# Altium schematic symbol library Moa.SchLib: 185 symbols (part 2 of 3)
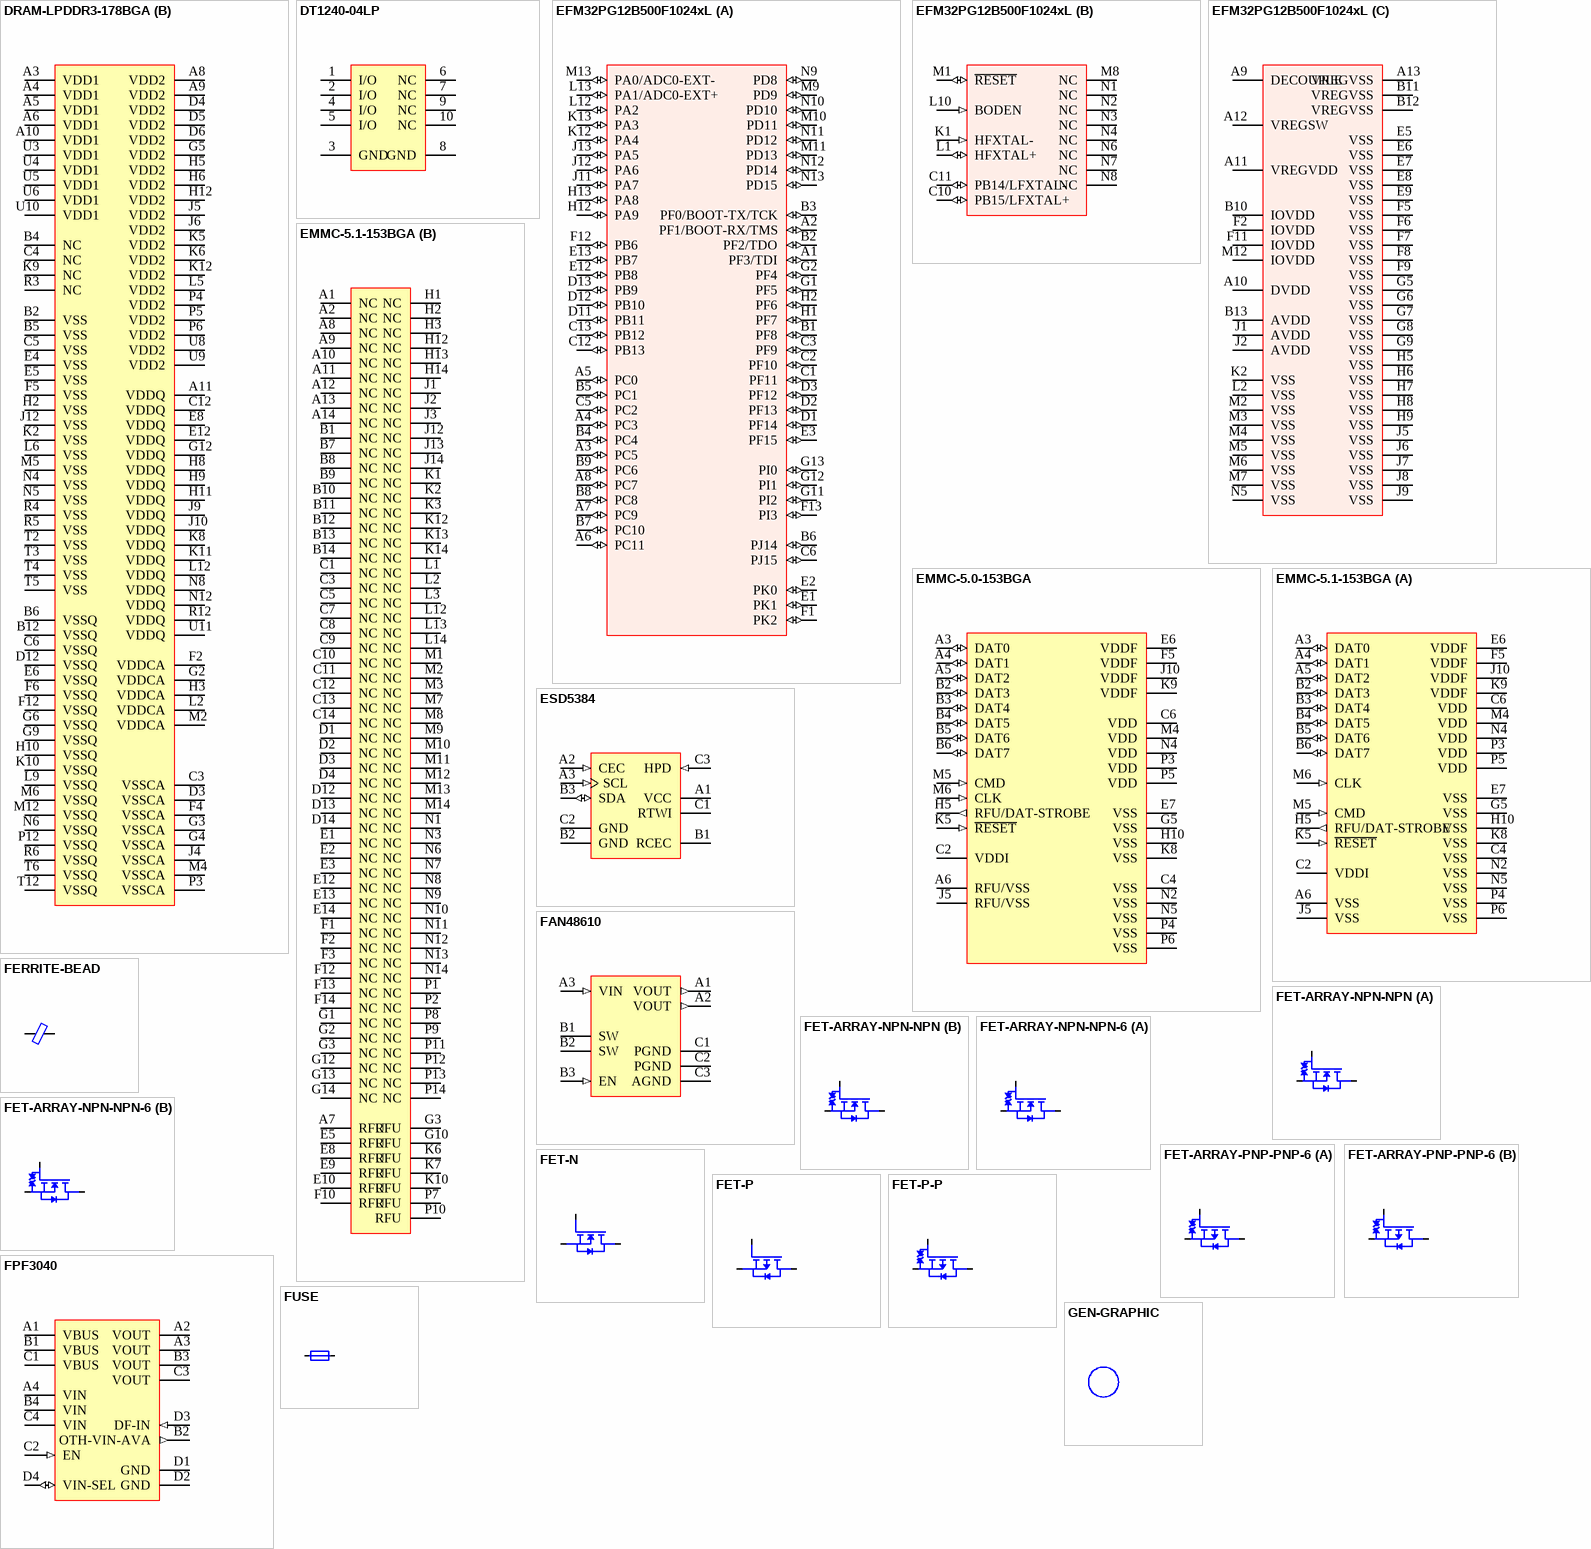
[diagram p11: symbols DRAM-LPDDR3-178BGA to GEN-GRAPHIC]

## DRAM-LPDDR3-178BGA
designator DU?
part A pins: A1 DNU "Do not use", A2 DNU "Do not use", A12 DNU "Do not use", A13 DNU "Do not use", B1 DNU "Do not use", B3 ZQ (io) "Reference Pin for Output Drive Strength Calibration", B8 DQ31 (io) "Data Inputs/Outputs: Bi-directional data bus", B9 DQ30 (io) "Data Inputs/Outputs: Bi-directional data bus", B10 DQ29 (io) "Data Inputs/Outputs: Bi-directional data bus", B11 DQ28 (io) "Data Inputs/Outputs: Bi-directional data bus", B13 DNU "Do not use", C2 CA9 (in) "DDR Command/Address Inputs: Uni-directional command/address bus inputs.", C8 DQ27 (io) "Data Inputs/Outputs: Bi-directional data bus", C9 DQ26 (io) "Data Inputs/Outputs: Bi-directional data bus", C10 DQ25 (io) "Data Inputs/Outputs: Bi-directional data bus", C11 DQ24 (io) "Data Inputs/Outputs: Bi-directional data bus", D2 CA8 (in) "DDR Command/Address Inputs: Uni-directional command/address bus inputs.", D8 DM3 (in) "Input Data Mask: DM is the input mask signal for write data. Input data is masked when DM is sampled HIGH coincident with that input data during a Write access.", D9 DQ15 (io) "Data Inputs/Outputs: Bi-directional data bus", D10 DQS3+ (io) "Data Strobes (Bi-directional, Differential): The data strobe is bi-directional (used for read and write data) and differential (DQS_t and DQS_c).", D11 DQS3- (io) "Data Strobes (Bi-directional, Differential): The data strobe is bi-directional (used for read and write data) and differential (DQS_t and DQS_c).", E2 CA7 (in) "DDR Command/Address Inputs: Uni-directional command/address bus inputs.", E3 CA6 (in) "DDR Command/Address Inputs: Uni-directional command/address bus inputs.", E9 DQ14 (io) "Data Inputs/Outputs: Bi-directional data bus", E10 DQ13 (io) "Data Inputs/Outputs: Bi-directional data bus", E11 DQ12 (io) "Data Inputs/Outputs: Bi-directional data bus", F3 CA5 (in) "DDR Command/Address Inputs: Uni-directional command/address bus inputs.", F8 DQ11 (io) "Data Inputs/Outputs: Bi-directional data bus", F9 DQ10 (io) "Data Inputs/Outputs: Bi-directional data bus", F10 DQ9 (io) "Data Inputs/Outputs: Bi-directional data bus", F11 DQ8 (io) "Data Inputs/Outputs: Bi-directional data bus", G8 DM1 (in) "Input Data Mask: DM is the input mask signal for write data. Input data is masked when DM is sampled HIGH coincident with that input data during a Write access.", G10 DQS1+ (io) "Data Strobes (Bi-directional, Differential): The data strobe is bi-directional (used for read and write data) and differential (DQS_t and DQS_c).", G11 DQS1- (io) "Data Strobes (Bi-directional, Differential): The data strobe is bi-directional (used for read and write data) and differential (DQS_t and DQS_c).", H4 VREF (CA) (power) "Reference Voltage for CA Command and Control Input Receiver: Reference voltage for all CA0-9, CKE, CS_n, CK_t, and CK_c input buffers.", J2 CK- (in) "Clock: CK_t and CK_c are differential clock inputs.", J3 CK+ (in) "Clock: CK_t and CK_c are differential clock inputs.", J8 ODT (in) "On Die Termination: This signal enables and disables termination on the DRAM DQ bus according to the specified mode register settings.", J11 VREF (DQ) (power) "Reference Voltage for DQ Input Receiver: Reference voltage for all data input buffers.", K3 CKE0 (in) "Clock Enable: CKE HIGH activates and CKE LOW deactivates internal clock signals and therefore device input buffers and output drivers.", K4 CKE1 (in) "Clock Enable: CKE HIGH activates and CKE LOW deactivates internal clock signals and therefore device input buffers and output drivers.", L3 ~{CS0} (in) "Chip Select: CS_n is considered part of the command code.", L4 ~{CS1} (in) "Chip Select: CS_n is considered part of the command code.", L8 DM0 (in) "Input Data Mask: DM is the input mask signal for write data. Input data is masked when DM is sampled HIGH coincident with that input data during a Write access.", L10 DQS0+ (io) "Data Strobes (Bi-directional, Differential): The data strobe is bi-directional (used for read and write data) and differential (DQS_t and DQS_c).", L11 DQS0- (io) "Data Strobes (Bi-directional, Differential): The data strobe is bi-directional (used for read and write data) and differential (DQS_t and DQS_c).", M3 CA4 (in) "DDR Command/Address Inputs: Uni-directional command/address bus inputs.", M8 DQ4 (io) "Data Inputs/Outputs: Bi-directional data bus", M9 DQ5 (io) "Data Inputs/Outputs: Bi-directional data bus", M10 DQ6 (io) "Data Inputs/Outputs: Bi-directional data bus", M11 DQ7 (io) "Data Inputs/Outputs: Bi-directional data bus", N2 CA2 (in) "DDR Command/Address Inputs: Uni-directional command/address bus inputs.", N3 CA3 (in) "DDR Command/Address Inputs: Uni-directional command/address bus inputs.", N9 DQ1 (io) "Data Inputs/Outputs: Bi-directional data bus", N10 DQ2 (io) "Data Inputs/Outputs: Bi-directional data bus", N11 DQ3 (io) "Data Inputs/Outputs: Bi-directional data bus", P2 CA1 (in) "DDR Command/Address Inputs: Uni-directional command/address bus inputs.", P8 DM2 (in) "Input Data Mask: DM is the input mask signal for write data. Input data is masked when DM is sampled HIGH coincident with that input data during a Write access.", P9 DQ0 (io) "Data Inputs/Outputs: Bi-directional data bus", P10 DQS2+ (io) "Data Strobes (Bi-directional, Differential): The data strobe is bi-directional (used for read and write data) and differential (DQS_t and DQS_c).", P11 DQS2- (io) "Data Strobes (Bi-directional, Differential): The data strobe is bi-directional (used for read and write data) and differential (DQS_t and DQS_c).", R2 CA0 (in) "DDR Command/Address Inputs: Uni-directional command/address bus inputs.", R8 DQ20 (io) "Data Inputs/Outputs: Bi-directional data bus", R9 DQ21 (io) "Data Inputs/Outputs: Bi-directional data bus", R10 DQ22 (io) "Data Inputs/Outputs: Bi-directional data bus", R11 DQ23 (io) "Data Inputs/Outputs: Bi-directional data bus", T1 DNU "Do not use", T8 DQ16 (io) "Data Inputs/Outputs: Bi-directional data bus", T9 DQ17 (io) "Data Inputs/Outputs: Bi-directional data bus", T10 DQ18 (io) "Data Inputs/Outputs: Bi-directional data bus", T11 DQ19 (io) "Data Inputs/Outputs: Bi-directional data bus", T13 DNU "Do not use", U1 DNU "Do not use", U2 DNU "Do not use", U12 DNU "Do not use", U13 DNU "Do not use"
part B pins: A3 VDD1 (power) "Core Power Supply 1: Core power supply.", A4 VDD1 (power) "Core Power Supply 1: Core power supply.", A5 VDD1 (power) "Core Power Supply 1: Core power supply.", A6 VDD1 (power) "Core Power Supply 1: Core power supply.", A8 VDD2 (power) "Core Power Supply 2: Core power supply.", A9 VDD2 (power) "Core Power Supply 2: Core power supply.", A10 VDD1 (power) "Core Power Supply 1: Core power supply.", A11 VDDQ (power) "I/O Power Supply: Power supply for Data input/output buffers.", B2 VSS (power) "Ground", B4 NC "Not connected", B5 VSS (power) "Ground", B6 VSSQ (power) "I/O Ground: Ground for data input/output buffers", B12 VSSQ (power) "I/O Ground: Ground for data input/output buffers", C3 VSSCA (power) "Ground for Input Receivers", C4 NC "Not connected", C5 VSS (power) "Ground", C6 VSSQ (power) "I/O Ground: Ground for data input/output buffers", C12 VDDQ (power) "I/O Power Supply: Power supply for Data input/output buffers.", D3 VSSCA (power) "Ground for Input Receivers", D4 VDD2 (power) "Core Power Supply 2: Core power supply.", D5 VDD2 (power) "Core Power Supply 2: Core power supply.", D6 VDD2 (power) "Core Power Supply 2: Core power supply.", D12 VSSQ (power) "I/O Ground: Ground for data input/output buffers", E4 VSS (power) "Ground", E5 VSS (power) "Ground", E6 VSSQ (power) "I/O Ground: Ground for data input/output buffers", E8 VDDQ (power) "I/O Power Supply: Power supply for Data input/output buffers.", E12 VDDQ (power) "I/O Power Supply: Power supply for Data input/output buffers.", F2 VDDCA (power) "Input Receiver Power Supply: Power supply for CA0-9, CKE, CS_n, CK_t, and CK_c input buffers.", F4 VSSCA (power) "Ground for Input Receivers", F5 VSS (power) "Ground", F6 VSSQ (power) "I/O Ground: Ground for data input/output buffers", F12 VSSQ (power) "I/O Ground: Ground for data input/output buffers", G2 VDDCA (power) "Input Receiver Power Supply: Power supply for CA0-9, CKE, CS_n, CK_t, and CK_c input buffers.", G3 VSSCA (power) "Ground for Input Receivers", G4 VSSCA (power) "Ground for Input Receivers", G5 VDD2 (power) "Core Power Supply 2: Core power supply.", G6 VSSQ (power) "I/O Ground: Ground for data input/output buffers", G9 VSSQ (power) "I/O Ground: Ground for data input/output buffers", G12 VDDQ (power) "I/O Power Supply: Power supply for Data input/output buffers.", H2 VSS (power) "Ground", H3 VDDCA (power) "Input Receiver Power Supply: Power supply for CA0-9, CKE, CS_n, CK_t, and CK_c input buffers.", H5 VDD2 (power) "Core Power Supply 2: Core power supply.", H6 VDD2 (power) "Core Power Supply 2: Core power supply.", H8 VDDQ (power) "I/O Power Supply: Power supply for Data input/output buffers.", H9 VDDQ (power) "I/O Power Supply: Power supply for Data input/output buffers.", H10 VSSQ (power) "I/O Ground: Ground for data input/output buffers", H11 VDDQ (power) "I/O Power Supply: Power supply for Data input/output buffers.", H12 VDD2 (power) "Core Power Supply 2: Core power supply.", J4 VSSCA (power) "Ground for Input Receivers", J5 VDD2 (power) "Core Power Supply 2: Core power supply.", J6 VDD2 (power) "Core Power Supply 2: Core power supply.", J9 VDDQ (power) "I/O Power Supply: Power supply for Data input/output buffers.", J10 VDDQ (power) "I/O Power Supply: Power supply for Data input/output buffers.", J12 VSS (power) "Ground", K2 VSS (power) "Ground", K5 VDD2 (power) "Core Power Supply 2: Core power supply.", K6 VDD2 (power) "Core Power Supply 2: Core power supply.", K8 VDDQ (power) "I/O Power Supply: Power supply for Data input/output buffers.", K9 NC "Not connected", K10 VSSQ (power) "I/O Ground: Ground for data input/output buffers", K11 VDDQ (power) "I/O Power Supply: Power supply for Data input/output buffers.", K12 VDD2 (power) "Core Power Supply 2: Core power supply.", L2 VDDCA (power) "Input Receiver Power Supply: Power supply for CA0-9, CKE, CS_n, CK_t, and CK_c input buffers.", L5 VDD2 (power) "Core Power Supply 2: Core power supply.", L6 VSS (power) "Ground", L9 VSSQ (power) "I/O Ground: Ground for data input/output buffers", L12 VDDQ (power) "I/O Power Supply: Power supply for Data input/output buffers.", M2 VDDCA (power) "Input Receiver Power Supply: Power supply for CA0-9, CKE, CS_n, CK_t, and CK_c input buffers.", M4 VSSCA (power) "Ground for Input Receivers", M5 VSS (power) "Ground", M6 VSSQ (power) "I/O Ground: Ground for data input/output buffers", M12 VSSQ (power) "I/O Ground: Ground for data input/output buffers", N4 VSS (power) "Ground", N5 VSS (power) "Ground", N6 VSSQ (power) "I/O Ground: Ground for data input/output buffers", N8 VDDQ (power) "I/O Power Supply: Power supply for Data input/output buffers.", N12 VDDQ (power) "I/O Power Supply: Power supply for Data input/output buffers.", P3 VSSCA (power) "Ground for Input Receivers", P4 VDD2 (power) "Core Power Supply 2: Core power supply.", P5 VDD2 (power) "Core Power Supply 2: Core power supply.", P6 VDD2 (power) "Core Power Supply 2: Core power supply.", P12 VSSQ (power) "I/O Ground: Ground for data input/output buffers", R3 NC "Not connected", R4 VSS (power) "Ground", R5 VSS (power) "Ground", R6 VSSQ (power) "I/O Ground: Ground for data input/output buffers", R12 VDDQ (power) "I/O Power Supply: Power supply for Data input/output buffers.", T2 VSS (power) "Ground", T3 VSS (power) "Ground", T4 VSS (power) "Ground", T5 VSS (power) "Ground", T6 VSSQ (power) "I/O Ground: Ground for data input/output buffers", T12 VSSQ (power) "I/O Ground: Ground for data input/output buffers", U3 VDD1 (power) "Core Power Supply 1: Core power supply.", U4 VDD1 (power) "Core Power Supply 1: Core power supply.", U5 VDD1 (power) "Core Power Supply 1: Core power supply.", U6 VDD1 (power) "Core Power Supply 1: Core power supply.", U8 VDD2 (power) "Core Power Supply 2: Core power supply.", U9 VDD2 (power) "Core Power Supply 2: Core power supply.", U10 VDD1 (power) "Core Power Supply 1: Core power supply.", U11 VDDQ (power) "I/O Power Supply: Power supply for Data input/output buffers."

## DT1240-04LP
designator U?
pins: 1 I/O, 2 I/O, 3 GND, 4 I/O, 5 I/O, 6 NC, 7 NC, 8 GND, 9 NC, 10 NC

## EFM32PG12B500F1024xL
designator U?
part A pins: A1 PF3/TDI (io) "GPIO (5V)", A2 PF1/BOOT-RX/TMS (io) "GPIO (5V)", A3 PC5 (io) "GPIO (5V)", A4 PC3 (io) "GPIO (5V)", A5 PC0 (io) "GPIO (5V)", A6 PC11 (io) "GPIO (5V)", A7 PC9 (io) "GPIO (5V)", A8 PC7 (io) "GPIO (5V)", B1 PF8 (io) "GPIO (5V)", B2 PF2/TDO (io) "GPIO (5V)", B3 PF0/BOOT-TX/TCK (io) "GPIO (5V)", B4 PC4 (io) "GPIO (5V)", B5 PC1 (io) "GPIO (5V)", B6 PJ14 (io) "GPIO (5V)", B7 PC10 (io) "GPIO (5V)", B8 PC8 (io) "GPIO (5V)", B9 PC6 (io) "GPIO (5V)", C1 PF11 (io) "GPIO (5V)", C2 PF10 (io) "GPIO (5V)", C3 PF9 (io) "GPIO (5V)", C5 PC2 (io) "GPIO (5V)", C6 PJ15 (io) "GPIO (5V)", C12 PB13 (io) "GPIO", C13 PB12 (io) "GPIO", D1 PF14 (io) "GPIO (5V)", D2 PF13 (io) "GPIO (5V)", D3 PF12 (io) "GPIO (5V)", D11 PB11 (io) "GPIO", D12 PB10 (io) "GPIO (5V)", D13 PB9 (io) "GPIO (5V)", E1  PK1 (io) "GPIO (5V)", E2 PK0 (io) "GPIO", E3 PF15 (io) "GPIO (5V)", E12 PB8 (io) "GPIO (5V)", E13 PB7 (io) "GPIO (5V)", F1 PK2 (io) "GPIO (5V)", F12 PB6 (io) "GPIO (5V)", F13 PI3 (io) "GPIO (5V)", G1 PF5 (io) "GPIO (5V)", G2 PF4 (io) "GPIO (5V)", G11 PI2 (io) "GPIO (5V)", G12 PI1 (io) "GPIO (5V)", G13 PI0 (io) "GPIO (5V)", H1 PF7 (io) "GPIO (5V)", H2 PF6 (io) "GPIO (5V)", H12 PA9 (io) "GPIO (5V)", H13 PA8 (io) "GPIO (5V)", J11 PA7 (io) "GPIO (5V)", J12 PA6 (io) "GPIO (5V)", J13 PA5 (io) "GPIO (5V)", K12 PA4 (io) "GPIO", K13 PA3 (io) "GPIO", L12 PA2 (io) "GPIO", L13 PA1/ADC0-EXT+ (io) "GPIO", M9 PD9 (io) "GPIO (5V)", M10 PD11 (io) "GPIO (5V)", M11 PD13 (io) "GPIO", M13 PA0/ADC0-EXT- (io) "GPIO", N9 PD8 (io) "GPIO (5V)", N10 PD10 (io) "GPIO (5V)", N11 PD12 (io) "GPIO (5V)", N12 PD14 (io) "GPIO", N13 PD15 (io) "GPIO"
part B pins: C10 PB15/LFXTAL+ (io) "GPIO", C11 PB14/LFXTAL- (io) "GPIO", K1 HFXTAL- (in) "High Frequency Crystal input pin.", L1 HFXTAL+ (io) "High Frequency Crystal output pin.", L10 BODEN (in) "Brown-Out Detector Enable. This pin may be left disconnected or tied to AVDD.", M1 ~{RESET} (io) "Reset input, active low. To apply an ex- ternal reset source to this pin, it is re- quired to only drive this pin low during reset, and let the internal pull-up ensure that reset is released.", M8 NC "No connect.", N1 NC "No connect.", N2 NC "No connect.", N3 NC "No connect.", N4 NC "No connect.", N6 NC "No connect.", N7 NC "No connect.", N8 NC "No connect."
part C pins: A9 DECOUPLE "Decouple output for on-chip voltage regulator. An external decoupling capacitor is required at this pin.", A10 DVDD (power) "Digital power supply.", A11 VREGVDD (power) "Voltage regulator VDD input", A12 VREGSW (power) "DCDC regulator switching node", A13 VREGVSS (power) "Voltage regulator VSS", B10 IOVDD (power) "Digital IO power supply.", B11 VREGVSS (power) "Voltage regulator VSS", B12 VREGVSS (power) "Voltage regulator VSS", B13 AVDD (power) "Analog power supply.", E5 VSS (power) "Ground", E6 VSS (power) "Ground", E7 VSS (power) "Ground", E8 VSS (power) "Ground", E9 VSS (power) "Ground", F2 IOVDD (power) "Digital IO power supply.", F5 VSS (power) "Ground", F6 VSS (power) "Ground", F7 VSS (power) "Ground", F8 VSS (power) "Ground", F9 VSS (power) "Ground", F11 IOVDD (power) "Digital IO power supply.", G5 VSS (power) "Ground", G6 VSS (power) "Ground", G7 VSS (power) "Ground", G8 VSS (power) "Ground", G9 VSS (power) "Ground", H5 VSS (power) "Ground", H6 VSS (power) "Ground", H7 VSS (power) "Ground", H8 VSS (power) "Ground", H9 VSS (power) "Ground", J1 AVDD (power) "Analog power supply.", J2 AVDD (power) "Analog power supply.", J5 VSS (power) "Ground", J6 VSS (power) "Ground", J7 VSS (power) "Ground", J8 VSS (power) "Ground", J9 VSS (power) "Ground", K2 VSS (power) "Ground", L2 VSS (power) "Ground", M2 VSS (power) "Ground", M3 VSS (power) "Ground", M4 VSS (power) "Ground", M5 VSS (power) "Ground", M6 VSS (power) "Ground", M7 VSS (power) "Ground", M12 IOVDD (power) "Digital IO power supply.", N5 VSS (power) "Ground"

## EMMC-5.0-153BGA
designator U?
pins: A3 DAT0 (io) "Data", A4 DAT1 (io) "Data", A5 DAT2 (io) "Data", A6 RFU/VSS (power) "Power", B2 DAT3 (io) "Data", B3 DAT4 (io) "Data", B4 DAT5 (io) "Data", B5 DAT6 (io) "Data", B6 DAT7 (io) "Data", C2 VDDI (power) "Power", C4 VSS (power) "Power", C6 VDD (power) "Power", E6 VDDF (power) "Power", E7 VSS (power) "Power", F5 VDDF (power) "Power", G5 VSS (power) "Power", H5 RFU/DAT-STROBE (out) "Data", H10 VSS (power) "Power", J5 RFU/VSS (power) "Power", J10 VDDF (power) "Power", K5 ~{RESET} (in) "Reset", K8 VSS (power) "Power", K9 VDDF (power) "Power", M4 VDD (power) "Power", M5 CMD (in) "Data", M6 CLK (in) "Clock", N2 VSS (power) "Power", N4 VDD (power) "Power", N5 VSS (power) "Power", P3 VDD (power) "Power", P4 VSS (power) "Power", P5 VDD (power) "Power", P6 VSS (power) "Power"

## EMMC-5.1-153BGA
designator U?
part A pins: A3 DAT0 (io) "Data", A4 DAT1 (io) "Data", A5 DAT2 (io) "Data", A6 VSS (power) "Power", B2 DAT3 (io) "Data", B3 DAT4 (io) "Data", B4 DAT5 (io) "Data", B5 DAT6 (io) "Data", B6 DAT7 (io) "Data", C2 VDDI (power) "Power", C4 VSS (power) "Power", C6 VDD (power) "Power", E6 VDDF (power) "Power", E7 VSS (power) "Power", F5 VDDF (power) "Power", G5 VSS (power) "Power", H5 RFU/DAT-STROBE (out) "Data", H10 VSS (power) "Power", J5 VSS (power) "Power", J10 VDDF (power) "Power", K5 ~{RESET} (in) "Reset", K8 VSS (power) "Power", K9 VDDF (power) "Power", M4 VDD (power) "Power", M5 CMD (in) "Data", M6 CLK (in) "Clock", N2 VSS (power) "Power", N4 VDD (power) "Power", N5 VSS (power) "Power", P3 VDD (power) "Power", P4 VSS (power) "Power", P5 VDD (power) "Power", P6 VSS (power) "Power"
part B pins: A1 NC "Not connected", A2 NC "Not connected", A7 RFU "Not connected", A8 NC "Not connected", A9 NC "Not connected", A10 NC "Not connected", A11 NC "Not connected", A12 NC "Not connected", A13 NC "Not connected", A14 NC "Not connected", B1 NC "Not connected", B7 NC "Not connected", B8 NC "Not connected", B9 NC "Not connected", B10 NC "Not connected", B11 NC "Not connected", B12 NC "Not connected", B13 NC "Not connected", B14 NC "Not connected", C1 NC "Not connected", C3 NC "Not connected", C5 NC "Not connected", C7 NC "Not connected", C8 NC "Not connected", C9 NC "Not connected", C10 NC "Not connected", C11 NC "Not connected", C12 NC "Not connected", C13 NC "Not connected", C14 NC "Not connected", D1 NC "Not connected", D2 NC "Not connected", D3 NC "Not connected", D4 NC "Not connected", D12 NC "Not connected", D13 NC "Not connected", D14 NC "Not connected", E1 NC "Not connected", E2 NC "Not connected", E3 NC "Not connected", E5 RFU "Not connected", E8 RFU "Not connected", E9 RFU "Not connected", E10 RFU "Not connected", E12 NC "Not connected", E13 NC "Not connected", E14 NC "Not connected", F1 NC "Not connected", F2 NC "Not connected", F3 NC "Not connected", F10 RFU "Not connected", F12 NC "Not connected", F13 NC "Not connected", F14 NC "Not connected", G1 NC "Not connected", G2 NC "Not connected", G3 NC "Not connected", G3 RFU "Not connected", G10 RFU "Not connected", G12 NC "Not connected", G13 NC "Not connected", G14 NC "Not connected", H1 NC "Not connected", H2 NC "Not connected", H3 NC "Not connected", H12 NC "Not connected", H13 NC "Not connected", H14 NC "Not connected", J1 NC "Not connected", J2 NC "Not connected", J3 NC "Not connected", J12 NC "Not connected", J13 NC "Not connected", J14 NC "Not connected", K1 NC "Not connected", K2 NC "Not connected", K3 NC "Not connected", K6 RFU "Not connected", K7 RFU "Not connected", K10 RFU "Not connected", K12 NC "Not connected", K13 NC "Not connected", K14 NC "Not connected", L1 NC "Not connected", L2 NC "Not connected", L3 NC "Not connected", L12 NC "Not connected", L13 NC "Not connected", L14 NC "Not connected", M1 NC "Not connected", M2 NC "Not connected", M3 NC "Not connected", M7 NC "Not connected", M8 NC "Not connected", M9 NC "Not connected", M10 NC "Not connected", M11 NC "Not connected", M12 NC "Not connected", M13 NC "Not connected", M14 NC "Not connected", N1 NC "Not connected", N3 NC "Not connected", N6 NC "Not connected", N7 NC "Not connected", N8 NC "Not connected", N9 NC "Not connected", N10 NC "Not connected", N11 NC "Not connected", N12 NC "Not connected", N13 NC "Not connected", N14 NC "Not connected", P1 NC "Not connected", P2 NC "Not connected", P7 RFU "Not connected", P8 NC "Not connected", P9 NC "Not connected", P10 RFU "Not connected", P11 NC "Not connected", P12 NC "Not connected", P13 NC "Not connected", P14 NC "Not connected"

## ESD5384
designator U?
pins: A1 VCC (power), A2 CEC (in), A3 SCL (in), B1 RCEC, B2 GND (power), B3 SDA (io), C1 RTWI, C2 GND (power), C3 HPD (in)

## FAN48610
designator U?
pins: A1 VOUT (out), A2 VOUT (out), A3 VIN (in), B1 SW, B2 SW, B3 EN (in), C1 PGND (power), C2 PGND (power), C3 AGND (power)

## FERRITE-BEAD
designator FL?
pins: 1, 2

## FET-ARRAY-NPN-NPN
designator Q?
part A pins: 1 S, 2 G, 6 D, 7 D
part B pins: 3 D, 4 S, 5 G, 8 D

## FET-ARRAY-NPN-NPN-6
designator Q?
part A pins: 1 S, 2 G, 6 D
part B pins: 3 D, 4 S, 5 G

## FET-ARRAY-PNP-PNP-6
designator Q?
part A pins: 1 S, 2 G, 3 D
part B pins: 4 S, 5 G, 6 D

## FET-N
designator Q?
pins: 1 D, 2 G, 3 S

## FET-P
designator Q?
pins: 1 S, 2 G, 3 D

## FET-P-P
designator Q?
pins: 1 D, 2 G, 3 S

## FPF3040
designator U?
pins: A1 VBUS (power), A2 VOUT (power), A3 VOUT (power), A4 VIN (power), B1 VBUS (power), B2 OTH-VIN-AVA (out), B3 VOUT (power), B4 VIN (power), C1 VBUS (power), C2 EN (in), C3 VOUT (power), C4 VIN (power), D1 GND (power), D2 GND (power), D3 DF-IN (in), D4 VIN-SEL (io)

## FUSE
designator F?
pins: 1, 2

## GEN-GRAPHIC
designator G?

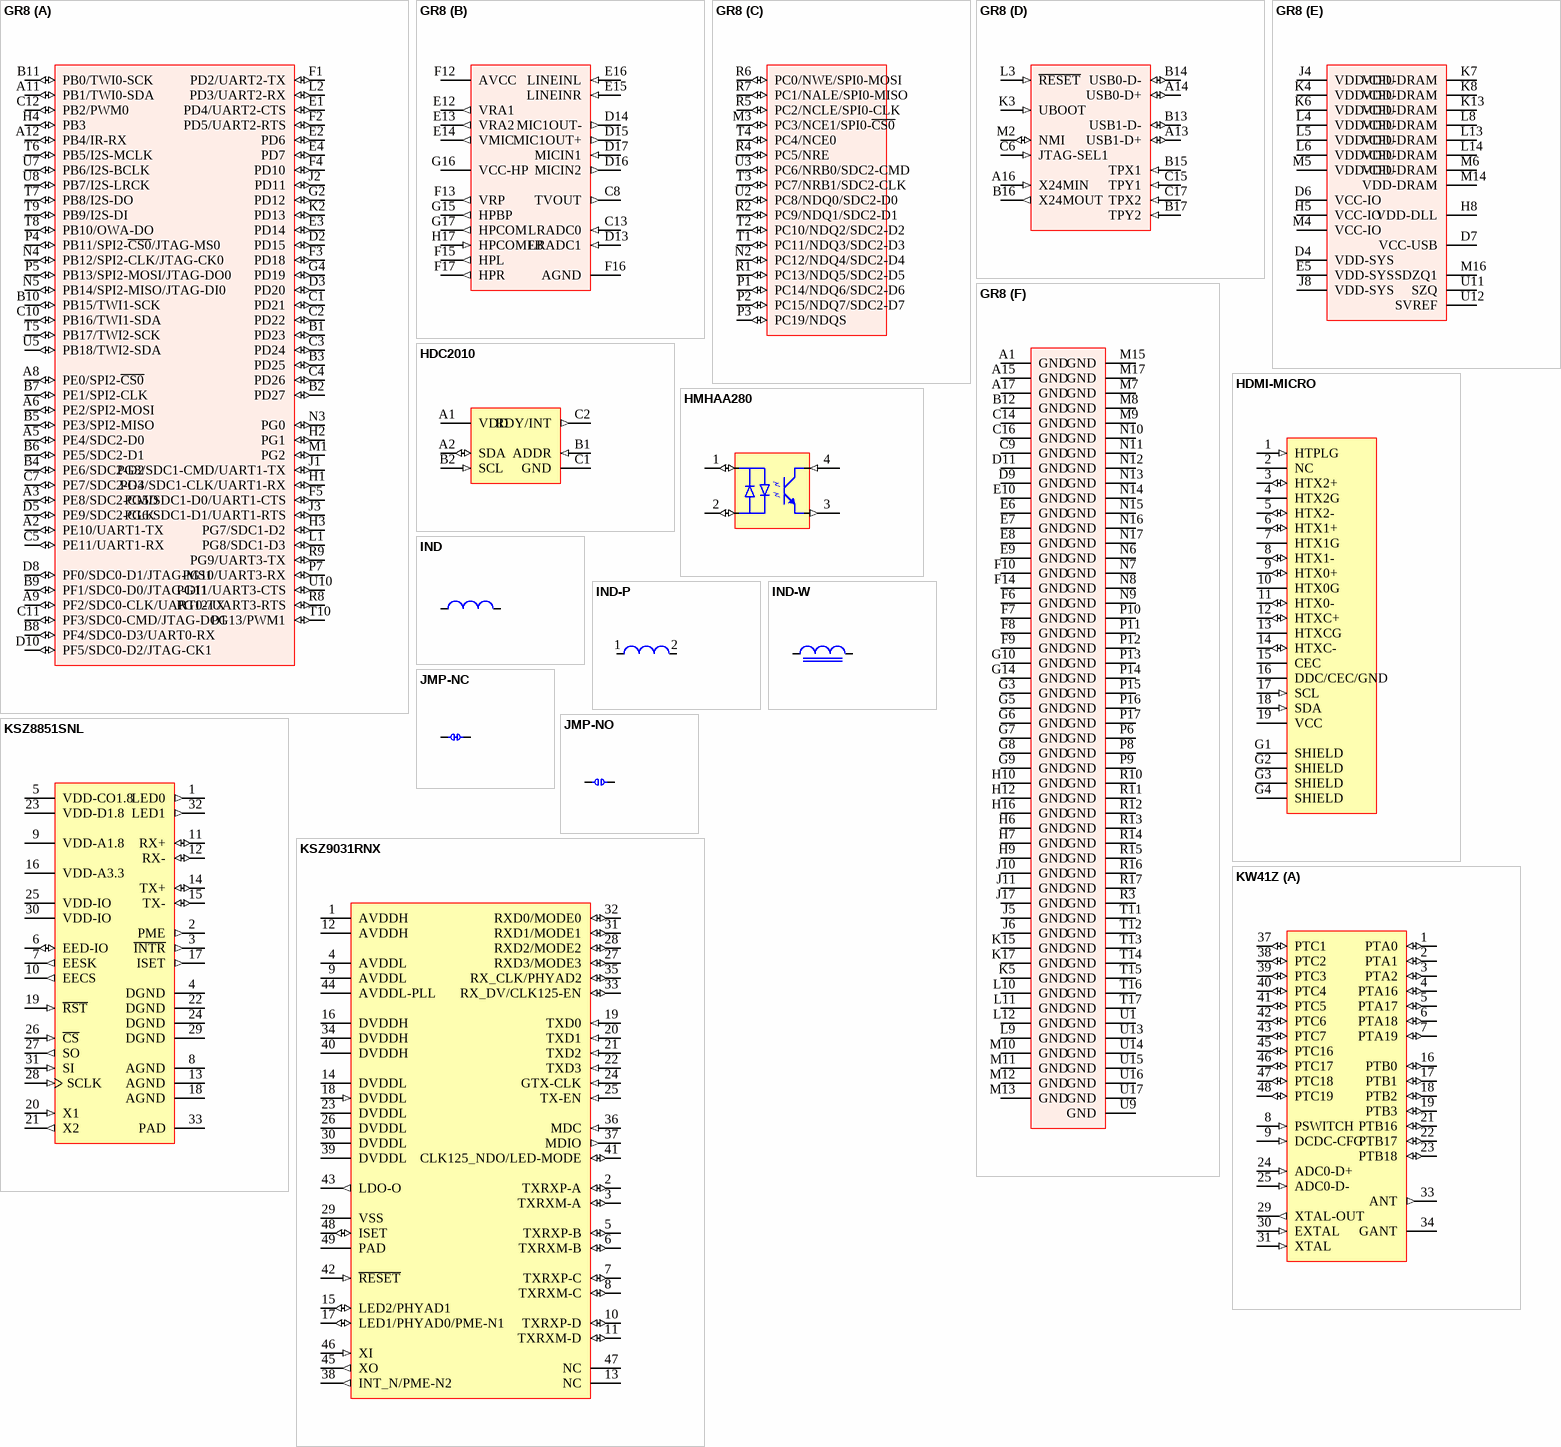
[diagram p5: symbols GR8 to KW41Z]

## GR8
designator U?
part A pins: A2 PE10/UART1-TX (io) "Port E", A3 PE8/SDC2-CMD (io) "Port E", A5 PE4/SDC2-D0 (io) "Port E", A6 PE2/SPI2-MOSI  (io) "Port E", A8 PE0/SPI2-~{CS0} (io) "Port E", A9 PF2/SDC0-CLK/UART0-TX (io) "Port F", A11 PB1/TWI0-SDA (io) "Port B", A12 PB4/IR-RX (io) "Port B", B1 PD23 (io) "Port D", B2 PD27 (io) "Port D", B3 PD25 (io) "Port D", B4 PE6/SDC2-D2 (io) "Port E", B5 PE3/SPI2-MISO (io) "Port E", B6 PE5/SDC2-D1 (io) "Port E", B7 PE1/SPI2-CLK  (io) "Port E", B8 PF4/SDC0-D3/UART0-RX (io) "Port F", B9 PF1/SDC0-D0/JTAG-DI1 (io) "Port F", B10 PB15/TWI1-SCK (io) "Port B", B11 PB0/TWI0-SCK (io) "Port B", C1 PD21 (io) "Port D", C2 PD22 (io) "Port D", C3 PD24 (io) "Port D", C4 PD26 (io) "Port D", C5 PE11/UART1-RX (io) "Port E", C7 PE7/SDC2-D3 (io) "Port E", C10 PB16/TWI1-SDA (io) "Port B", C11 PF3/SDC0-CMD/JTAG-DO1 (io) "Port F", C12 PB2/PWM0 (io) "Port B", D2 PD15 (io) "Port D", D3 PD20 (io) "Port D", D5 PE9/SDC2-CLK (io) "Port E", D8 PF0/SDC0-D1/JTAG-MS1 (io) "Port F", D10 PF5/SDC0-D2/JTAG-CK1 (io) "Port F", E1 PD4/UART2-CTS (io) "Port D", E2 PD6 (io) "Port D", E3 PD14 (io) "Port D", E4 PD7 (io) "Port D", F1 PD2/UART2-TX (io) "Port D", F2 PD5/UART2-RTS (io) "Port D", F3 PD18 (io) "Port D", F4 PD10 (io) "Port D", F5 PG5/SDC1-D0/UART1-CTS (io) "Port G", G2 PD12 (io) "Port D", G4 PD19 (io) "Port D", H1 PG4/SDC1-CLK/UART1-RX (io) "Port G", H2 PG1 (io) "Port G", H3 PG7/SDC1-D2 (io) "Port G", H4 PB3 (io) "Port B", J1 PG3/SDC1-CMD/UART1-TX (io) "Port G", J2 PD11 (io) "Port D", J3 PG6/SDC1-D1/UART1-RTS (io) "Port G", K2 PD13 (io) "Port D", L1 PG8/SDC1-D3 (io) "Port G", L2 PD3/UART2-RX (io) "Port D", M1 PG2 (io) "Port G", N3 PG0 (io) "Port G", N4 PB12/SPI2-CLK/JTAG-CK0 (io) "Port B", N5 PB14/SPI2-MISO/JTAG-DI0 (io) "Port B", P4 PB11/SPI2-~{CS0}/JTAG-MS0 (io) "Port B", P5 PB13/SPI2-MOSI/JTAG-DO0 (io) "Port B", P7 PG10/UART3-RX (io) "Port G", R8 PG12/UART3-RTS (io) "Port G", R9 PG9/UART3-TX (io) "Port G", T5 PB17/TWI2-SCK (io) "Port B", T6 PB5/I2S-MCLK (io) "Port B", T7 PB8/I2S-DO (io) "Port B", T8 PB10/OWA-DO (io) "Port B", T9 PB9/I2S-DI (io) "Port B", T10 PG13/PWM1 (io) "Port G", U5 PB18/TWI2-SDA (io) "Port B", U7 PB6/I2S-BCLK (io) "Port B", U8 PB7/I2S-LRCK (io) "Port B", U10 PG11/UART3-CTS (io) "Port G"
part B pins: C8 TVOUT (out) "TV Out", C13 LRADC0 (in) "LRADC", D13 LRADC1 (in) "LRADC", D14 MIC1OUT- (out) "Audio Codec", D15 MIC1OUT+ (out) "Audio Codec", D16 MICIN2 (out) "Audio Codec", D17 MICIN1 (in) "Audio Codec", E12 VRA1 (out) "Audio Codec", E13 VRA2 (out) "Audio Codec", E14 VMIC (out) "Audio Codec", E15 LINEINR (in) "Audio Codec", E16 LINEINL (in) "Audio Codec", F12 AVCC (power) "Audio Codec", F13 VRP (out) "Audio Codec", F15 HPL (out) "Audio Codec", F16 AGND (power) "Audio Codec", F17 HPR (out) "Audio Codec", G15 HPBP (out) "Audio Codec", G16 VCC-HP (power) "Audio Codec", G17 HPCOM (out) "Audio Codec", H17 HPCOMFB (in) "Audio Codec"
part C pins: M3 PC3/NCE1/SPI0-~{CS0} (io) "Port C", N2 PC12/NDQ4/SDC2-D4 (io) "Port C", P1 PC14/NDQ6/SDC2-D6 (io) "Port C", P2 PC15/NDQ7/SDC2-D7 (io) "Port C", P3 PC19/NDQS (io) "Port C", R1 PC13/NDQ5/SDC2-D5 (io) "Port C", R2 PC9/NDQ1/SDC2-D1 (io) "Port C", R4 PC5/NRE (io) "Port C", R5 PC2/NCLE/SPI0-CLK  (io) "Port C", R6 PC0/NWE/SPI0-MOSI (io) "Port C", R7 PC1/NALE/SPI0-MISO (io) "Port C", T1 PC11/NDQ3/SDC2-D3 (io) "Port C", T2 PC10/NDQ2/SDC2-D2 (io) "Port C", T3 PC7/NRB1/SDC2-CLK (io) "Port C", T4 PC4/NCE0 (io) "Port C", U2 PC8/NDQ0/SDC2-D0 (io) "Port C", U3 PC6/NRB0/SDC2-CMD (io) "Port C"
part D pins: A13 USB1-D+ (io) "USB", A14 USB0-D+ (io) "USB", A16 X24MIN (in) "Clock", B13 USB1-D- (io) "USB", B14 USB0-D- (io) "USB", B15 TPX1 (in) "TP", B16 X24MOUT (out) "Clock", B17 TPY2 (in) "TP", C6 JTAG-SEL1 (in) "System", C15 TPY1 (in) "TP", C17 TPX2 (in) "TP", K3 UBOOT (in) "System", L3 ~{RESET} (in) "System", M2 NMI (io) "System"
part E pins: D4 VDD-SYS (power) "Power", D6 VCC-IO (power) "Power", D7 VCC-USB (power) "USB", E5 VDD-SYS (power) "Power", H5 VCC-IO (power) "Power", H8 VDD-DLL (power) "DRAM", J4 VDD-CPU (power) "Power", J8 VDD-SYS (power) "Power", K4 VDD-CPU (power) "Power", K6 VDD-CPU (power) "Power", K7 VDD-DRAM (power) "DRAM", K8 VDD-DRAM (power) "DRAM", K13 VDD-DRAM (power) "DRAM", L4 VDD-CPU (power) "Power", L5 VDD-CPU (power) "Power", L6 VDD-CPU (power) "Power", L8 VDD-DRAM (power) "DRAM", L13 VDD-DRAM (power) "DRAM", L14 VDD-DRAM (power) "DRAM", M4 VCC-IO (power) "Power", M5 VDD-CPU (power) "Power", M6 VDD-DRAM (power) "DRAM", M14 VDD-DRAM (power) "DRAM", M16 SDZQ1 "DRAM", U11 SZQ "DRAM", U12 SVREF (power) "DRAM"
part F pins: A1 GND (power) "Power", A15 GND (power) "Power", A17 GND (power) "Power", B12 GND (power) "Power", C9 GND (power) "Power", C14 GND (power) "Power", C16 GND (power) "Power", D9 GND (power) "Power", D11 GND (power) "Power", E6 GND (power) "Power", E7 GND (power) "Power", E8 GND (power) "Power", E9 GND (power) "Power", E10 GND (power) "Power", F6 GND (power) "Power", F7 GND (power) "Power", F8 GND (power) "Power", F9 GND (power) "Power", F10 GND (power) "Power", F14 GND (power) "Power", G3 GND (power) "Power", G5 GND (power) "Power", G6 GND (power) "Power", G7 GND (power) "Power", G8 GND (power) "Power", G9 GND (power) "Power", G10 GND (power) "Power", G14 GND (power) "Power", H6 GND (power) "Power", H7 GND (power) "Power", H9 GND (power) "Power", H10 GND (power) "Power", H12 GND (power) "Power", H16 GND (power) "Power", J5 GND (power) "Power", J6 GND (power) "Power", J10 GND (power) "Power", J11 GND (power) "Power", J17 GND (power) "Power", K5 GND (power) "Power", K15 GND (power) "Power", K17 GND (power) "Power", L9 GND (power) "Power", L10 GND (power) "Power", L11 GND (power) "Power", L12 GND (power) "Power", M7 GND (power) "Power", M8 GND (power) "Power", M9 GND (power) "Power", M10 GND (power) "Power", M11 GND (power) "Power", M12 GND (power) "Power", M13 GND (power) "Power", M15 GND (power) "Power", M17 GND (power) "Power", N6 GND (power) "Power", N7 GND (power) "Power", N8 GND (power) "Power", N9 GND (power) "Power", N10 GND (power) "Power", N11 GND (power) "Power", N12 GND (power) "Power", N13 GND (power) "Power", N14 GND (power) "Power", N15 GND (power) "Power", N16 GND (power) "Power", N17 GND (power) "Power", P6 GND (power) "Power", P8 GND (power) "Power", P9 GND (power) "Power", P10 GND (power) "Power", P11 GND (power) "Power", P12 GND (power) "Power", P13 GND (power) "Power", P14 GND (power) "Power", P15 GND (power) "Power", P16 GND (power) "Power", P17 GND (power) "Power", R3 GND (power) "Power", R10 GND (power) "Power", R11 GND (power) "Power", R12 GND (power) "Power", R13 GND (power) "Power", R14 GND (power) "Power", R15 GND (power) "Power", R16 GND (power) "Power", R17 GND (power) "Power", T11 GND (power) "Power", T12 GND (power) "Power", T13 GND (power) "Power", T14 GND (power) "Power", T15 GND (power) "Power", T16 GND (power) "Power", T17 GND (power) "Power", U1 GND (power) "Power", U9 GND (power) "Power", U13 GND (power) "Power", U14 GND (power) "Power", U15 GND (power) "Power", U16 GND (power) "Power", U17 GND (power) "Power"

## HDC2010
designator U?
pins: A1 VDD (power), A2 SDA (io), B1 ADDR (in), B2 SCL (in), C1 GND (power), C2 RDY/INT (out)

## HDMI-MICRO
designator J?
pins: 1 HTPLG (in) "Detect", 2 NC "Utility/HEAC_P", 3 HTX2+ (io) "Data", 4 HTX2G (power) "Power", 5 HTX2- (io) "Data", 6 HTX1+ (io) "Data", 7 HTX1G (power) "Power", 8 HTX1- (io) "Data", 9 HTX0+ (io) "Data", 10 HTX0G (power) "Power", 11 HTX0- (io) "Data", 12 HTXC+ (io) "Data", 13 HTXCG (power) "Power", 14 HTXC- (io) "Data", 15 CEC, 16 DDC/CEC/GND (power) "DDC", 17 SCL (in) "Data", 18 SDA (in) "Data", 19 VCC (power) "Power", G1 SHIELD (power) "Power", G2 SHIELD (power) "Power", G3 SHIELD (power) "Power", G4 SHIELD (power) "Power"

## HMHAA280
designator U?
pins: 1 (io), 2 (io), 3 (out), 4 (in)

## IND
designator L?
pins: 1, 2

## IND-P
designator L?
pins: 1, 2

## IND-W
designator L?
pins: 1, 2

## JMP-NC
designator JP?
pins: 1, 2

## JMP-NO
designator JP?
pins: 1, 2

## KSZ8851SNL
designator U?
pins: 1 LED0 (out), 2 PME (out), 3 ~{INTR} (out), 4 DGND (power), 5 VDD-CO1.8 (power), 6 EED-IO (io), 7 EESK (out), 8 AGND (power), 9 VDD-A1.8 (power), 10 EECS (out), 11 RX+ (io), 12 RX- (io), 13 AGND (power), 14 TX+ (io), 15 TX- (io), 16 VDD-A3.3 (power), 17 ISET (out), 18 AGND (power), 19 ~{RST} (in), 20 X1 (in), 21 X2 (out), 22 DGND (power), 23 VDD-D1.8 (power), 24 DGND (power), 25 VDD-IO (power), 26 ~{CS} (in), 27 SO (out), 28 SCLK (in), 29 DGND (power), 30 VDD-IO (power), 31 SI (in), 32 LED1 (out), 33 PAD (power)

## KSZ9031RNX
designator U?
pins: 1 AVDDH (power) "Power", 2 TXRXP-A (io) "Media Dependent Interface", 3 TXRXM-A (io) "Media Dependent Interface", 4 AVDDL (power) "Power", 5 TXRXP-B (io) "Media Dependent Interface", 6 TXRXM-B (io) "Media Dependent Interface", 7 TXRXP-C (io) "Media Dependent Interface", 8 TXRXM-C (io) "Media Dependent Interface", 9 AVDDL (power) "Power", 10 TXRXP-D (io) "Media Dependent Interface", 11 TXRXM-D (io) "Media Dependent Interface", 12 AVDDH (power) "Power", 13 NC, 14 DVDDL (power) "Power", 15 LED2/PHYAD1 (io) "LED", 16 DVDDH (power) "Power", 17 LED1/PHYAD0/PME-N1 (io) "LED", 18 DVDDL (in) "Power", 19 TXD0 (in) "RGMII", 20 TXD1 (in) "RGMII", 21 TXD2 (in) "RGMII", 22 TXD3 (in) "RGMII", 23 DVDDL (power) "Power", 24 GTX-CLK (in) "RGMII", 25 TX-EN (in) "RGMII", 26 DVDDL (power) "Power", 27 RXD3/MODE3 (io) "RGMII", 28 RXD2/MODE2 (io) "RGMII", 29 VSS (power) "Power", 30 DVDDL (power) "Power", 31 RXD1/MODE1 (io) "RGMII", 32 RXD0/MODE0 (io) "RGMII", 33 RX_DV/CLK125-EN (io) "RGMII", 34 DVDDH (power) "Power", 35 RX_CLK/PHYAD2 (io) "RGMII", 36 MDC (in) "Clock", 37 MDIO (out) "Clock", 38 INT_N/PME-N2 (out) "GPIO", 39 DVDDL (power) "Power", 40 DVDDH (power) "Power", 41 CLK125_NDO/LED-MODE (io) "Clock", 42 ~{RESET} (in) "Reset", 43 LDO-O (out) "Power", 44 AVDDL-PLL (power) "Power", 45 XO (out) "Clock", 46 XI (in) "Clock", 47 NC, 48 ISET (io) "Output Level", 49 PAD (power) "Paddle"

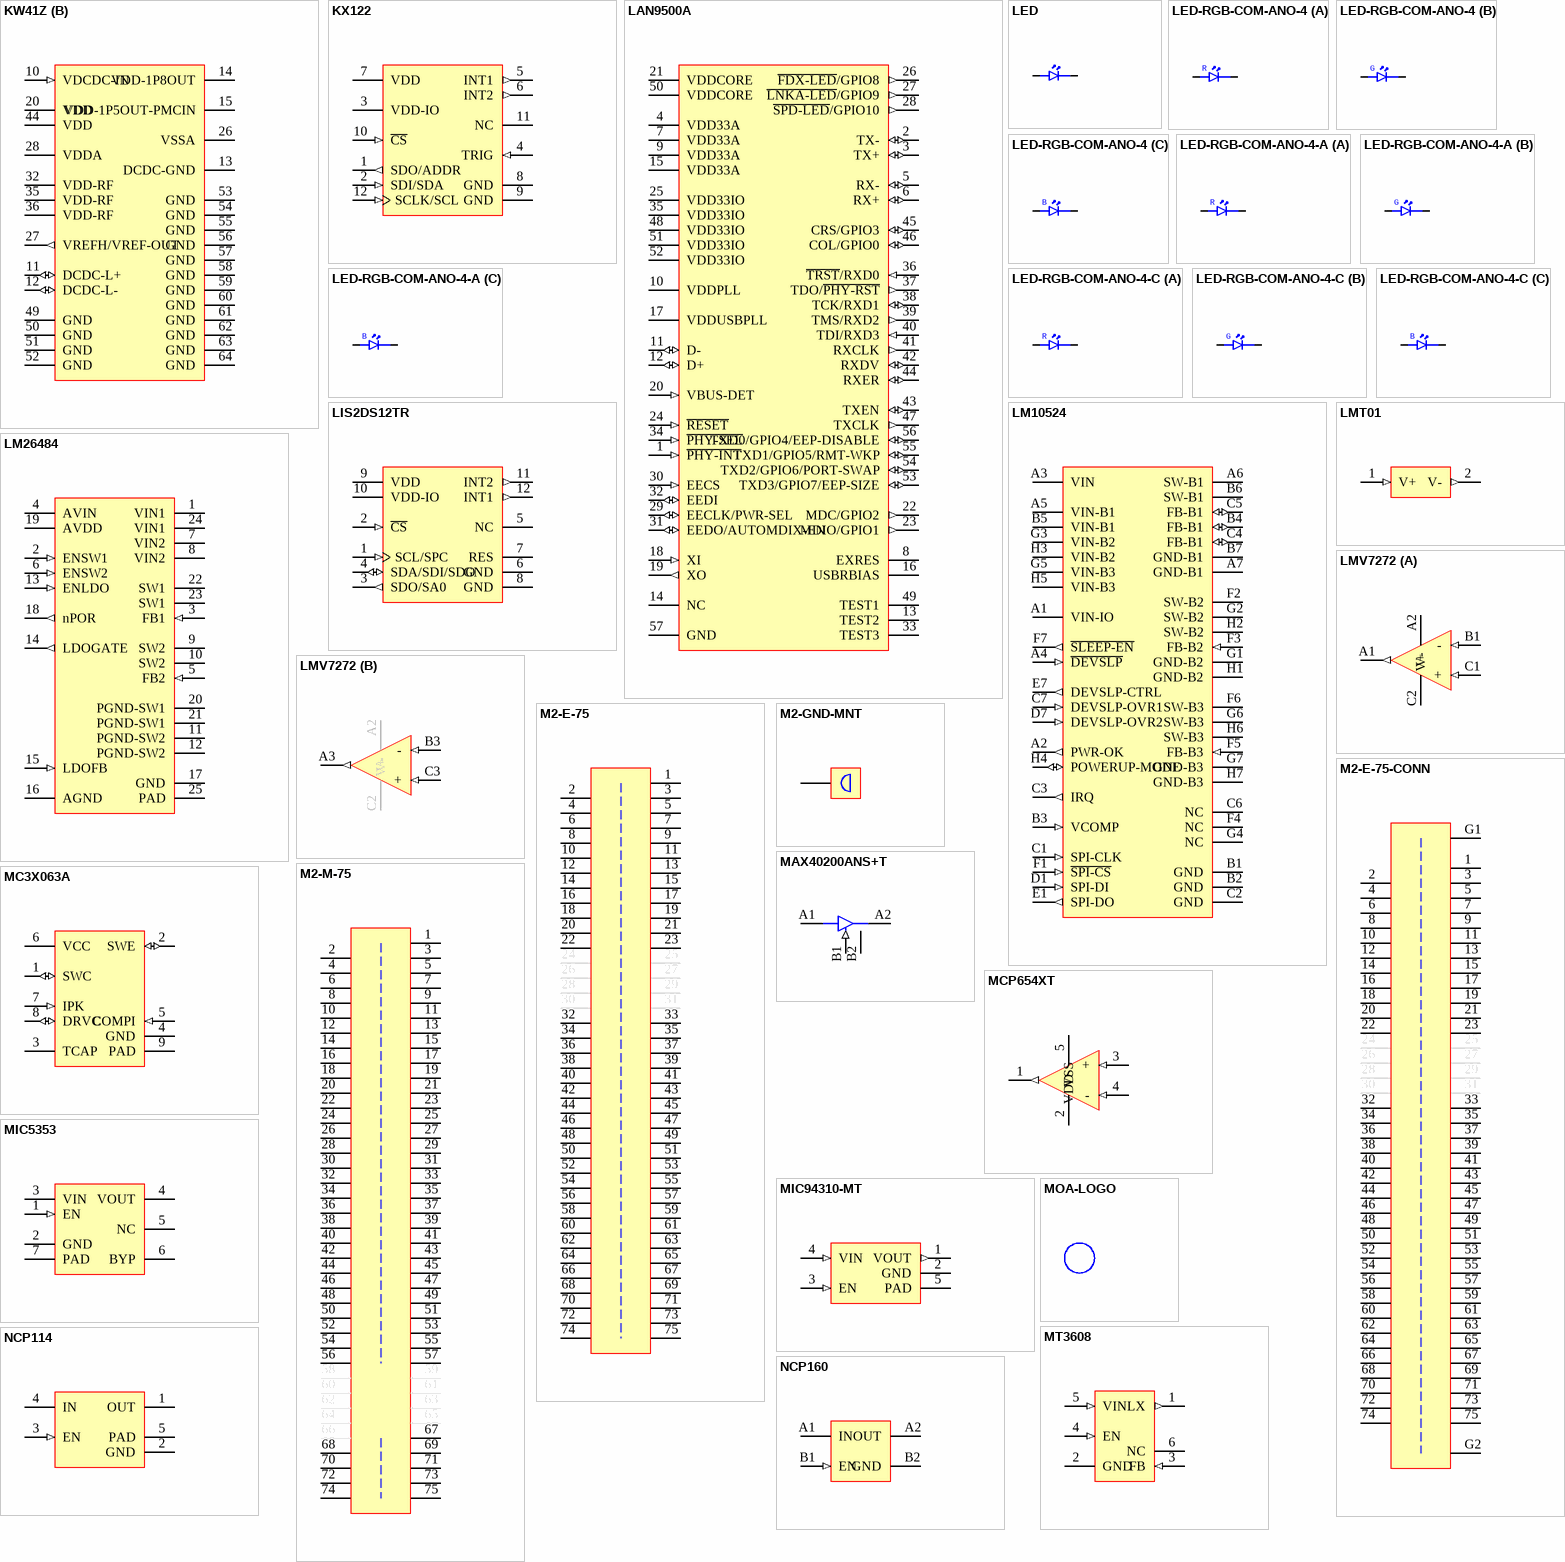
[diagram p6: symbols KW41Z to NCP160]

## KW41Z
designator U?
part A pins: 1 PTA0 (io) "General Purpose Input/ Output", 2 PTA1 (io) "General Purpose Input/ Output", 3 PTA2 (io) "General Purpose Input/ Output", 4 PTA16 (io) "General Purpose Input/ Output", 5 PTA17 (io) "General Purpose Input/ Output", 6 PTA18 (io) "General Purpose Input/ Output", 7 PTA19 (io) "General Purpose Input/ Output", 8 PSWITCH (in) "DCDC enable switch", 9 DCDC-CFG (in) "DCDC switch mode select I", 16 PTB0 (io) "General Purpose Input/ Output", 17 PTB1 (io) "General Purpose Input/ Output", 18 PTB2 (io) "General Purpose Input/ Output", 19 PTB3 (io) "General Purpose Input/ Output", 21 PTB16 (io) "General Purpose Input/ Output", 22 PTB17 (io) "General Purpose Input/ Output", 23 PTB18 (io) "General Purpose Input/ Output", 24 ADC0-D+ (in) "ADC Channel 0 single ended input", 25 ADC0-D- (in) "ADC Channel 0 single ended input", 29 XTAL-OUT (out) "26 MHz/32 MHz Clock output", 30 EXTAL (in) "26 MHz/32 MHz Oscillator input", 31 XTAL (in) "26 MHz/32 MHz Oscillator input", 33 ANT (out) "Antenna output", 34 GANT (power) "Radio power supply", 37 PTC1 (io) "General Purpose Input/ Output", 38 PTC2 (io) "General Purpose Input/ Output", 39 PTC3 (io) "General Purpose Input/ Output", 40 PTC4 (io) "General Purpose Input/ Output", 41 PTC5 (io) "General Purpose Input/ Output", 42 PTC6 (io) "General Purpose Input/ Output", 43 PTC7 (io) "General Purpose Input/ Output", 45 PTC16 (io) "General Purpose Input/ Output", 46 PTC17 (io) "General Purpose Input/ Output", 47 PTC18 (io) "General Purpose Input/ Output", 48 PTC19 (io) "General Purpose Input/ Output"
part B pins: 10 VDCDC-IN (in) "VDCDC input", 11 DCDC-L+ (io) "DCDC inductor input", 12 DCDC-L- (io) "DCDC inductor input", 13 DCDC-GND (power) "Power supply", 14 VDD-1P8OUT (power) "Power supply", 15 VDD-1P5OUT-PMCIN (power) "Power supply", 20 VDD (power) "Power supply", 26 VSSA (power) "Analog power supply", 27 VREFH/VREF-OUT (out) "Voltage reference select high", 28 VDDA (power) "Power supply", 32 VDD-RF (power) "Radio power supply", 35 VDD-RF (power) "Radio power supply", 36 VDD-RF (power) "Radio power supply", 44 VDD (power) "Power supply", 49 GND (power) "LQFN Ground Pads", 50 GND (power) "LQFN Ground Pads", 51 GND (power) "LQFN Ground Pads", 52 GND (power) "LQFN Ground Pads", 53 GND (power) "LQFN Ground Pads", 54 GND (power) "LQFN Ground Pads", 55 GND (power) "LQFN Ground Pads", 56 GND (power) "LQFN Ground Pads", 57 GND (power) "LQFN Ground Pads", 58 GND (power) "LQFN Ground Pads", 59 GND (power) "LQFN Ground Pads", 60 GND (power) "LQFN Ground Pads", 61 GND (power) "LQFN Ground Pads", 62 GND (power) "LQFN Ground Pads", 63 GND (power) "LQFN Ground Pads", 64 GND (power) "LQFN Ground Pads"

## KX122
designator U?
pins: 1 SDO/ADDR (out), 2 SDI/SDA (in), 3 VDD-IO (power), 4 TRIG (in), 5 INT1 (out), 6 INT2 (out), 7 VDD (power), 8 GND (power), 9 GND (power), 10 ~{CS} (in), 11 NC, 12 SCLK/SCL (in)

## LAN9500A
designator U?
pins: 1 ~{PHY-INT} (in) "LAN9500", 2 TX- (io) "LAN9500", 3 TX+ (io) "LAN9500", 4 VDD33A (power) "LAN9500", 5 RX- (io) "LAN9500", 6 RX+ (io) "LAN9500", 7 VDD33A (power) "LAN9500", 8 EXRES "LAN9500", 9 VDD33A (power) "LAN9500", 10 VDDPLL (power) "LAN9500", 11 D- (io) "LAN9500", 12 D+ (io) "LAN9500", 13 TEST2 "LAN9500", 14 NC "LAN9500", 15 VDD33A (power) "LAN9500", 16 USBRBIAS "LAN9500", 17 VDDUSBPLL (power) "LAN9500", 18 XI (in) "LAN9500", 19 XO (out) "LAN9500", 20 VBUS-DET (in) "LAN9500", 21 VDDCORE (power) "LAN9500", 22 MDC/GPIO2 (out) "LAN9500", 23 MDIO/GPIO1 (out) "LAN9500", 24 ~{RESET} (in) "LAN9500", 25 VDD33IO (power) "LAN9500", 26 ~{FDX-LED}/GPIO8 (out) "LAN9500", 27 ~{LNKA-LED}/GPIO9 (out) "LAN9500", 28 ~{SPD-LED}/GPIO10 (out) "LAN9500", 29 EECLK/PWR-SEL (io) "LAN9500", 30 EECS (in) "LAN9500", 31 EEDO/AUTOMDIX-EN  (io) "LAN9500", 32 EEDI (io) "LAN9500", 33 TEST3 "LAN9500", 34 ~{PHY-SEL} (in) "LAN9500", 35 VDD33IO (power) "LAN9500", 36 ~{TRST}/RXD0 (in) "LAN9500", 37 TDO/~{PHY-RST} (out) "LAN9500", 38 TCK/RXD1 (io) "LAN9500", 39 TMS/RXD2 (out) "LAN9500", 40 TDI/RXD3 (in) "LAN9500", 41 RXCLK (out) "LAN9500", 42 RXDV (io) "LAN9500", 43 TXEN (io) "LAN9500", 44 RXER (io) "LAN9500", 45 CRS/GPIO3 (io) "LAN9500", 46 COL/GPIO0 (io) "LAN9500", 47 TXCLK (out) "LAN9500", 48 VDD33IO (power) "LAN9500", 49 TEST1 "LAN9500", 50 VDDCORE (power) "LAN9500", 51 VDD33IO (power) "LAN9500", 52 VDD33IO (power) "LAN9500", 53 TXD3/GPIO7/EEP-SIZE (io) "LAN9500", 54 TXD2/GPIO6/PORT-SWAP (io) "LAN9500", 55 TXD1/GPIO5/RMT-WKP (io) "LAN9500", 56 TXD0/GPIO4/EEP-DISABLE (io) "LAN9500", 57 GND (power) "LAN9500"

## LED
designator D?
pins: 1, 2

## LED-RGB-COM-ANO-4
designator D?
part A pins: 1, 4
part B pins: 1, 3
part C pins: 1, 2
part A text: R
part B text: G
part C text: B

## LED-RGB-COM-ANO-4-A
designator D?
part A pins: 1, 2
part B pins: 1, 3
part C pins: 1, 4
part A text: R
part B text: G
part C text: B

## LED-RGB-COM-ANO-4-C
designator D?
part A pins: 2, 4
part B pins: 3, 4
part C pins: 1, 4
part A text: R
part B text: G
part C text: B

## LIS2DS12TR
designator U?
pins: 1 SCL/SPC (in), 2 ~{CS} (in), 3 SDO/SA0 (out), 4 SDA/SDI/SDO (io), 5 NC, 6 GND (power), 7 RES, 8 GND (power), 9 VDD (power), 10 VDD-IO (power), 11 INT2 (out), 12 INT1 (out)

## LM10524
designator U?
pins: A1 VIN-IO (power) "Power supply Input Voltage — must be present for device to work; decouple closely to D7.", A2 PWR-OK (out) "PWR_OK Signal, Push Pull output.", A3 VIN (power) "Power supply Input Voltage — must be present for device to work; decouple closely to D7.", A4 ~{DEVSLP} (in) "Digital Input Control Signal for entering Device Sleep Mode. Input activates the device sleep function in conjunction with DEVSLP_OVR1, DEVSLP_OVR2, and PowerUp_mode. This is an active High pin with an option for an internal pullup resistor. Turns off all outputs and internal oscillator.", A5 VIN-B1 (power) "Buck Switcher Regulator 1 - Power supply voltage input for power stage PFET, if Buck 1 is not used, tie to ground to reduce leakage.", A6 SW-B1 (power) "Buck Switcher Regulator 1 - Power Switching node, connect to inductor.", A7 GND-B1 (power) "Buck Switcher Regulator 1 - Power ground for Buck Regulator.", B1 GND (power) "Ground. Connect to system Ground.", B2 GND (power) "Ground. Connect to system Ground.", B3 VCOMP (in) "Analog Input for Comparator.", B4 FB-B1 (io) "Buck Switcher Regulator 1 - Voltage output feedback plus Bypass Power.", B5 VIN-B1 (power) "Buck Switcher Regulator 1 - Power supply voltage input for power stage PFET, if Buck 1 is not used, tie to ground to reduce leakage.", B6 SW-B1 (power) "Buck Switcher Regulator 1 - Power Switching node, connect to inductor.", B7 GND-B1 (power) "Buck Switcher Regulator 1 - Power ground for Buck Regulator.", C1 SPI-CLK (in) "SPI Interface - serial clock input.", C2 GND (power) "Ground. Connect to system Ground.", C3 IRQ (out) "Interrupt. Digital Output of Comparator to signal interrupt condition.", C4 FB-B1 (io) "Buck Switcher Regulator 1 - Voltage output feedback plus Bypass Power.", C5 FB-B1 (io) "Buck Switcher Regulator 1 - Voltage output feedback plus Bypass Power.", C6 NC "Not Used.", C7 DEVSLP-OVR1 (in) "Used to gate activation of device sleep.", D1 SPI-DI (in) "SPI Interface - serial data input.", D7 DEVSLP-OVR2 (in) "Used to gate activation of device sleep.", E1 SPI-DO (out) "SPI Interface - serial data output.", E7 DEVSLP-CTRL (out) "Indicates DevSLP signal is active but drives low when device is in SLEEP mode.", F1 ~{SPI-CS} (in) "SPI Interface - chip select.", F2 SW-B2 (power) "Buck Switcher Regulator 2 - Power Switching node, connect to inductor.", F3 FB-B2 (in) "Buck Switcher Regulator 2 - Voltage output feedback.", F4 NC "Not Used.", F5 FB-B3 (in) "Buck Switcher Regulator 3 - Voltage output feedback.", F6 SW-B3 (power) "Buck Switcher Regulator 3 - Power Switching node, connect to inductor.", F7 ~{SLEEP-EN} (out) "Active high output indicates device is in Sleep Mode.", G1 GND-B2 (power) "Buck Switcher Regulator 2 - Power ground for Buck Regulator.", G2 SW-B2 (power) "Buck Switcher Regulator 2 - Power Switching node, connect to inductor.", G3 VIN-B2 (power) "Power supply Input Voltage — must be present for device to work; decouple closely to D7.", G4 NC "Not Used.", G5 VIN-B3 (power) "Power supply Input Voltage — must be present for device to work; decouple closely to D7.", G6 SW-B3 (power) "Buck Switcher Regulator 3 - Power Switching node, connect to inductor.", G7 GND-B3 (power) "Buck Switcher Regulator 3 - Power ground for Buck Regulator.", H1 GND-B2 (power) "Buck Switcher Regulator 2 - Power ground for Buck Regulator.", H2 SW-B2 (power) "Buck Switcher Regulator 2 - Power Switching node, connect to inductor.", H3 VIN-B2 (power) "Power supply Input Voltage — must be present for device to work; decouple closely to D7.", H4 POWERUP-MODE (io) "Used to indicate SSD initialization is complete. Once initialization is complete, this pin should be externally pulled low to allow Sleep mode activation via DEVSLP", H5 VIN-B3 (power) "Power supply Input Voltage — must be present for device to work; decouple closely to D7.", H6 SW-B3 (power) "Buck Switcher Regulator 3 - Power Switching node, connect to inductor.", H7 GND-B3 (power) "Buck Switcher Regulator 3 - Power ground for Buck Regulator."

## LM26484
designator U?
pins: 1 VIN1 (power) "Power in DC source Buck1 PMOS", 2 ENSW1 (in) "Enable for Buck1 switcher, a logic HIGH enables Buck", 3 FB1 (in) "Buck1 input feedback terminal", 4 AVIN (power) "Analog power for internal circuits", 5 FB2 (in) "Buck2 input feedback terminal", 6 ENSW2 (in) "Enable for Buck2 switcher, a logic HIGH enables Buck2", 7 VIN2 (power) "Power in DC source Buck2 PMOS", 8 VIN2 (power) "Power in DC source Buck2 PMOS", 9 SW2 (power) "Buck2 switcher output", 10 SW2 (power) "Buck2 switcher output", 11 PGND-SW2 (power) "Buck2 NMOS Power Ground", 12 PGND-SW2 (power) "Buck2 NMOS Power Ground", 13 ENLDO (in) "Enable for LDO, a logic HIGH enables LDO", 14 LDOGATE (out) "LDO Controller output to NMOS power transistor Gate", 15 LDOFB (in) "LDO Controller input to feedback terminal", 16 AGND (power) "Analog GND", 17 GND (power) "Ground", 18 nPOR (out) "nPOR Active low Reset output. nPOR remains LOW while the input supply is below threshold, and goes HIGH after the threshold is reached and timed delay", 19 AVDD (power) "Analog Power Pin", 20 PGND-SW1 (power) "Buck1 NMOS Power Ground", 21 PGND-SW1 (power) "Buck1 NMOS Power Ground", 22 SW1 (power) "Buck1 switcher output", 23 SW1 (power) "Buck1 switcher output", 24 VIN1 (power) "Power in DC source Buck1 PMOS", 25 PAD (power) "Connection isn't necessary for electrical performance, but it is recommended for better thermal dissipation."

## LMT01
designator U?
pins: 1 V+ (in), 2 V- (out)

## LMV7272
designator U?
part A pins: A1 OUT (out), A2 V+ (power), B1 - (in), C1 + (in), C2 V- (power)
part B pins: A2 V+ (power), A3 OUT B (out), B3 - (in), C2 V- (power), C3 + (in)

## M2-E-75
designator J?
pins: 1, 2, 3, 4, 5, 6, 7, 8, 9, 10, 11, 12, 13, 14, 15, 16, 17, 18, 19, 20, 21, 22, 23, 24, 25, 26, 27, 28, 29, 30, 31, 32, 33, 34, 35, 36, 37, 38, 39, 40, 41, 42, 43, 44, 45, 46, 47, 48, 49, 50, 51, 52, 53, 54, 55, 56, 57, 58, 59, 60, 61, 62, 63, 64, 65, 66, 67, 68, 69, 70, 71, 72, 73, 74, 75

## M2-E-75-CONN
designator J?
pins: 1, 2, 3, 4, 5, 6, 7, 8, 9, 10, 11, 12, 13, 14, 15, 16, 17, 18, 19, 20, 21, 22, 23, 24, 25, 26, 27, 28, 29, 30, 31, 32, 33, 34, 35, 36, 37, 38, 39, 40, 41, 42, 43, 44, 45, 46, 47, 48, 49, 50, 51, 52, 53, 54, 55, 56, 57, 58, 59, 60, 61, 62, 63, 64, 65, 66, 67, 68, 69, 70, 71, 72, 73, 74, 75, G1, G2

## M2-GND-MNT
designator J?
pins: 1 (power)

## M2-M-75
designator J?
pins: 1, 2, 3, 4, 5, 6, 7, 8, 9, 10, 11, 12, 13, 14, 15, 16, 17, 18, 19, 20, 21, 22, 23, 24, 25, 26, 27, 28, 29, 30, 31, 32, 33, 34, 35, 36, 37, 38, 39, 40, 41, 42, 43, 44, 45, 46, 47, 48, 49, 50, 51, 52, 53, 54, 55, 56, 57, 58, 59, 60, 61, 62, 63, 64, 65, 66, 67, 68, 69, 70, 71, 72, 73, 74, 75

## MAX40200ANS+T
designator D?
pins: A1 VDD (power), A2 OUT (power), B1 EN (in), B2 GND (power)

## MC3X063A
designator U?
pins: 1 SWC (io), 2 SWE (io), 3 TCAP, 4 GND (power), 5 COMPI (in), 6 VCC (power), 7 IPK (in), 8 DRVC (io), 9 PAD (power)

## MCP654XT
designator U?
pins: 1 OUT (out), 2 VSS (power), 3 + (in), 4 - (in), 5 VDD (power)

## MIC5353
designator U?
pins: 1 EN (in), 2 GND (power), 3 VIN (power), 4 VOUT (power), 5 NC, 6 BYP, 7 PAD (power)

## MIC94310-MT
designator U?
pins: 1 VOUT (out), 2 GND (power), 3 EN (in), 4 VIN (in), 5 PAD (power)

## MOA-LOGO
designator G?

## MT3608
designator U?
pins: 1 LX (out), 2 GND (power), 3 FB (in), 4 EN (in), 5 VIN (in), 6 NC

## NCP114
designator U?
pins: 1 OUT (power), 2 GND (power), 3 EN (in), 4 IN (power), 5 PAD (power)

## NCP160
designator U?
pins: A1 IN (power), A2 OUT (power), B1 EN (in), B2 GND (power)

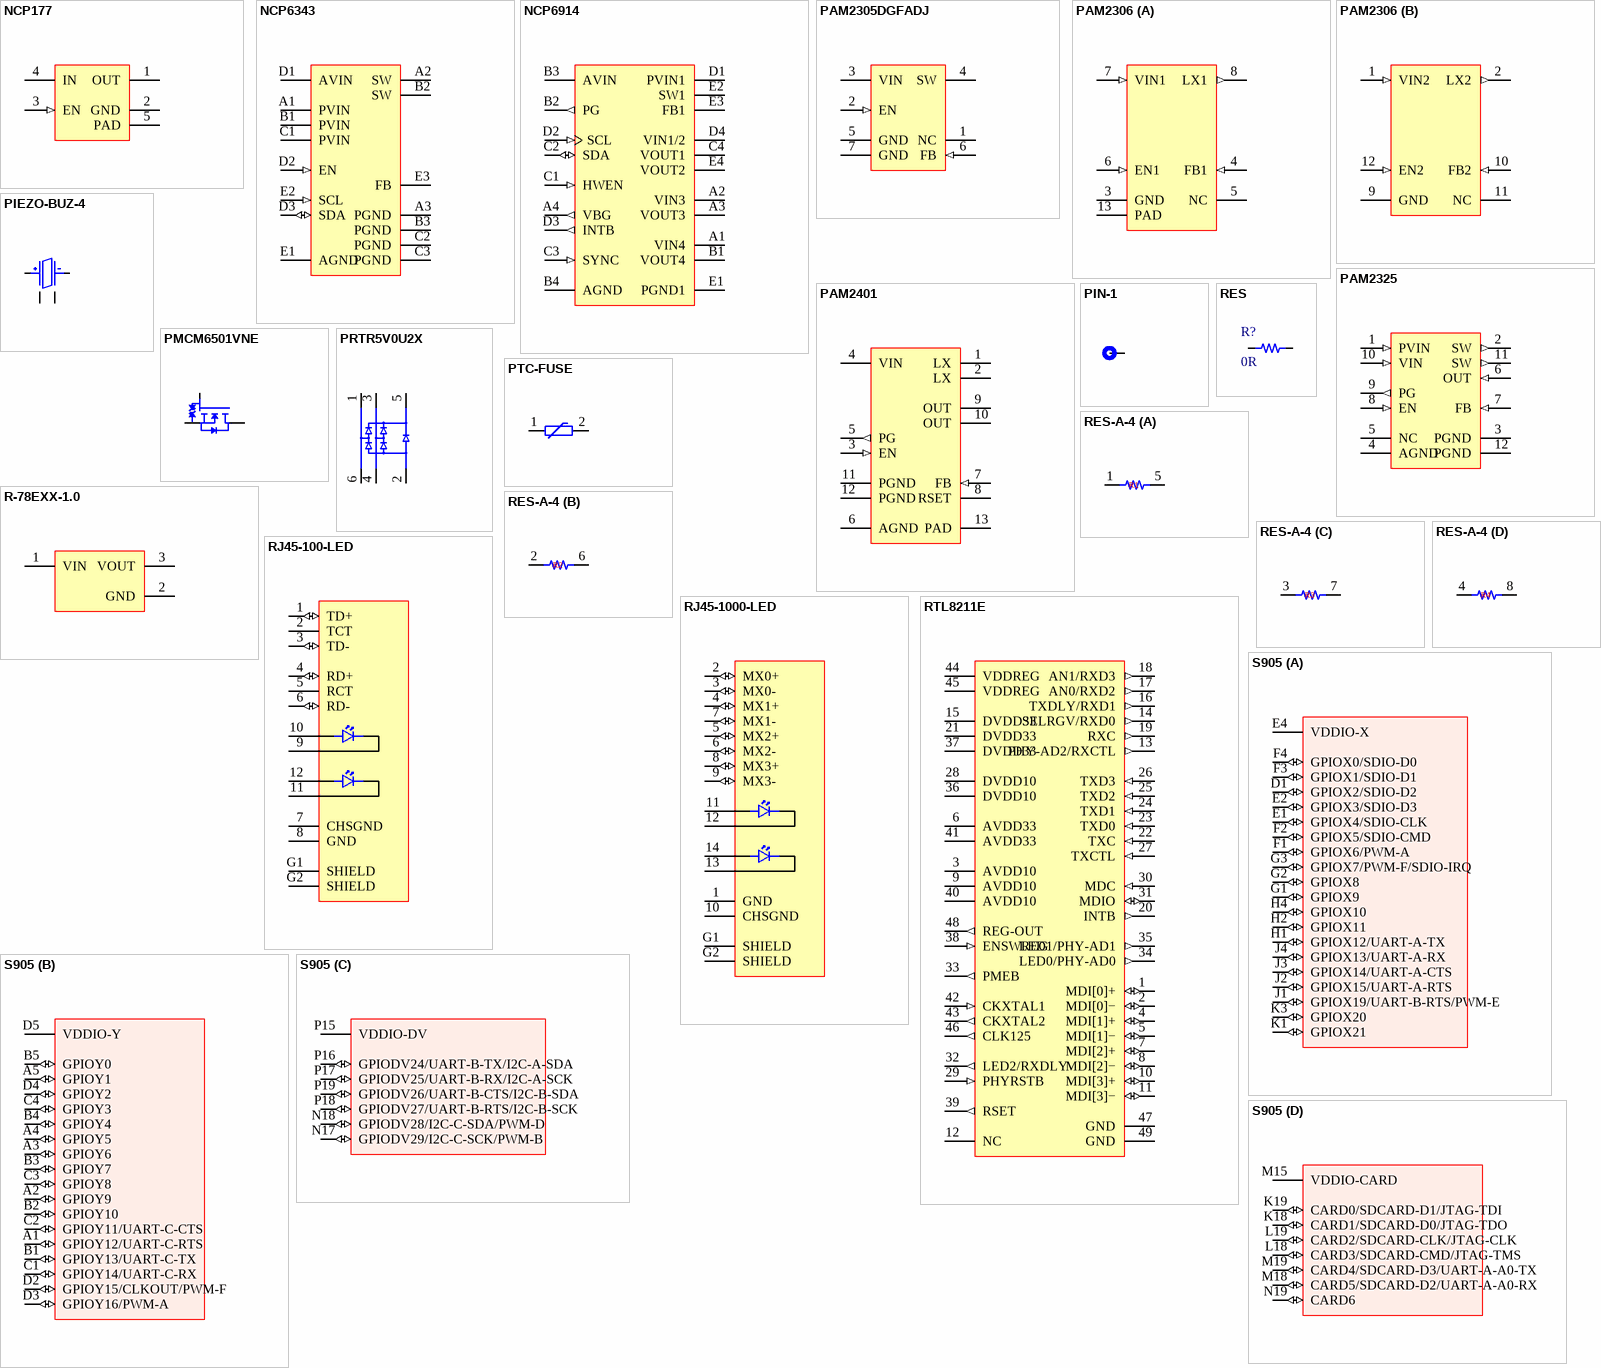
[diagram p7: symbols NCP177 to S905]

## NCP177
designator U?
pins: 1 OUT (power), 2 GND (power), 3 EN (in), 4 IN (power), 5 PAD (power)

## NCP6343
designator U?
pins: A1 PVIN (power), A2 SW, A3 PGND (power), B1 PVIN (power), B2 SW, B3 PGND (power), C1 PVIN (power), C2 PGND (power), C3 PGND (power), D1 AVIN (power), D2 EN (in), D3 SDA (io), E1 AGND (power), E2 SCL (in), E3 FB

## NCP6914
designator U?
pins: A1 VIN4 (power) "LDO 4 Power Supply.", A2 VIN3 (power) "LDO 3 Power Supply.", A3 VOUT3 (power) "LDO 3 Output Power. This pin requires a 2.2 mF decoupling capacitor.", A4 VBG (out) "Reference Voltage. A 0.1 mF ceramic capacitor must bypass this pin to the system ground.", B1 VOUT4 (power) "LDO 4 Output Power. This pin requires a 2.2 mF decoupling capacitor.", B2 PG (out) "Power Good. Open drain output.", B3 AVIN (power) "Analog Supply. This pin is the device analog and digital supply. A 1.0 mF ceramic capacitor or larger must bypass this input to ground. This capacitor should be placed as close as possible to this pin.", B4 AGND (power) "Analog Ground. Analog and digital modules ground. Must be connected to the system ground.", C1 HWEN (in) "Hardware Enable. Active high will enable the part. There is an internal pull down resistor on this pin.", C2 SDA (io) "I2C interface Data.", C3 SYNC (in) "External Synchronization Input.", C4 VOUT1 (power) "LDO 1 Output Power. This pin requires a 2.2 mF decoupling capacitor.", D1 PVIN1 (power) "DCDC Power Supply. This pin must be decoupled to ground by a 4.7 mF ceramic capacitor. This capacitor should be placed as close as possible to this pin.", D2 SCL (in) "I2C interface Clock.", D3 INTB (out) "Interrupt. Open drain output.", D4 VIN1/2 (power) "LDO 1&2 Power Supply.", E1 PGND1 (power) "DCDC Power Ground. This pin is the power ground and carries the high switching current. A high quality ground must be provided to prevent noise spikes. A local ground plane is recommended to avoid high−density current flow in a limited PCB track.", E2 SW1 (power) "DCDC Switch Power. This pin connects the power transistors to one end of the inductor. Typical application uses 1.0 mH inductor; refer to application section for more information.", E3 FB1 "DCDC Feedback Voltage. This pin is the input to the error amplifier and must be connected to the output capacitor.", E4 VOUT2 (power) "LDO 2 Output Power. This pin requires a 2.2 mF decoupling capacitor."

## PAM2305DGFADJ
designator U?
pins: 1 NC, 2 EN (in), 3 VIN (power), 4 SW (power), 5 GND (power), 6 FB (in), 7 GND (power)

## PAM2306
designator U?
part A pins: 3 GND (power), 4 FB1 (in), 5 NC, 6 EN1 (in), 7 VIN1 (in), 8 LX1 (out), 13 PAD (power)
part B pins: 1 VIN2 (in), 2 LX2 (out), 9 GND (power), 10 FB2 (in), 11 NC, 12 EN2 (in)

## PAM2325
designator U?
pins: 1 PVIN (in), 2 SW (out), 3 PGND (power), 4 AGND (power), 5 NC, 6 OUT (in), 7 FB (in), 8 EN (in), 9 PG (out), 10 VIN (in), 11 SW (out), 12 PGND (power)

## PAM2401
designator U?
pins: 1 LX (power), 2 LX (power), 3 EN (in), 4 VIN (power), 5 PG (out), 6 AGND (power), 7 FB (in), 8 RSET, 9 OUT (power), 10 OUT (power), 11 PGND (power), 12 PGND (power), 13 PAD (power)

## PIEZO-BUZ-4
designator SP?
pins: 1, 2, 3, 4

## PIN-1
designator SP?
pins: 1

## PMCM6501VNE
designator U?
pins: A1 G, A2 S, B1 S, B2 S, C1 D, C2 D

## PRTR5V0U2X
designator U?
pins: 1 IO1, 2 GND (power), 3 IO2, 4 IO2, 5 VCC (power), 6 IO1

## PTC-FUSE
designator F?
pins: 1 (power), 2 (power)

## R-78EXX-1.0
designator U?
pins: 1 VIN (power), 2 GND (power), 3 VOUT (power)

## RES
designator R?, comment 0R
Value: 0R
pins: 1, 2

## RES-A-4
designator RN?
part A pins: 1, 5
part B pins: 2, 6
part C pins: 3, 7
part D pins: 4, 8
part A text: R1
part B text: R2
part C text: R3
part D text: R4

## RJ45-100-LED
designator J?
pins: 1 TD+ (io), 2 TCT, 3 TD- (io), 4 RD+ (io), 5 RCT, 6 RD- (io), 7 CHSGND (power), 8 GND, 9, 10, 11, 12, G1 SHIELD (power), G2 SHIELD (power)

## RJ45-1000-LED
designator J?
pins: 1 GND (power), 2 MX0+ (io), 3 MX0- (io), 4 MX1+ (io), 5 MX2+ (io), 6 MX2- (io), 7 MX1- (io), 8 MX3+ (io), 9 MX3- (io), 10 CHSGND (power), 11, 12, 13, 14, G1 SHIELD (power), G2 SHIELD (power)